# EAGLE library part EF20 (library common components)
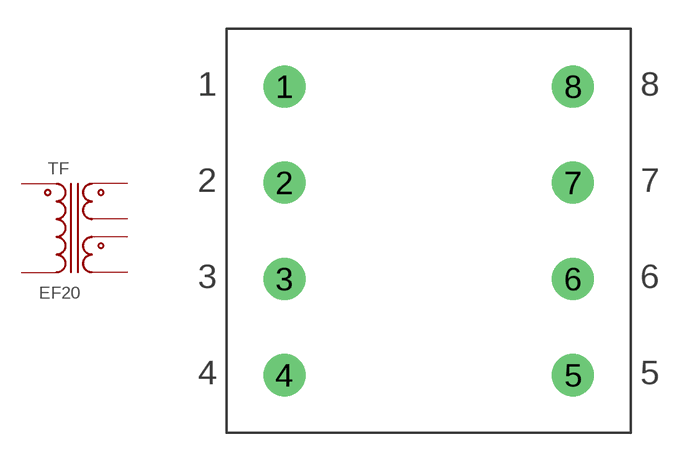
[diagram p4: symbol with the pads of EF-TRANSFORMER; footprint EF-TRANSFORMER]

Designator prefix TF

## EF20  [EF-TRANSFORMER]
1  1  pas
3  3  pas
4  4  pas
5  5  pas
6  6  pas
8  8  pas

## Footprint EF-TRANSFORMER (pad centres in mm)
drill 1 pad 2.184: 1 -7.5,7.5; 2 -7.5,2.5; 3 -7.5,-2.5; 4 -7.5,-7.5; 5 7.5,-7.5; 6 7.5,-2.5; 7 7.5,2.5; 8 7.5,7.5